# Altium integrated library REF192.IntLib: 1 symbol
Pins are listed as number, name and electrical type; pins without a type are passive.

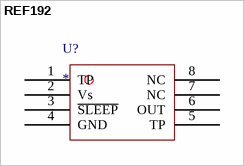
[diagram p0: symbol REF192]

## REF192
designator U?
footprint REF192(SOIC127P600X175-8N) (SOIC, 8-Leads, Body 4.90x3.90mm, Pitch 1.27mm, IPC Medium Density)
pins: 1 TP, 2 Vs, 3 ~{SLEEP}, 4 GND, 5 TP, 6 OUT, 7 NC, 8 NC